# Altium footprint library Harting.PcbLib: 11 footprints
Each footprint in its own frame and in the unit in brackets; x right, y up, seen from the top. Pads: shape width x height; smd on the part's side, far side on the other; paste and mask are expansions set on the pad; w line width, h text height; cw(c..) or ccw(c..) is an arc to the next point about the centre after c.
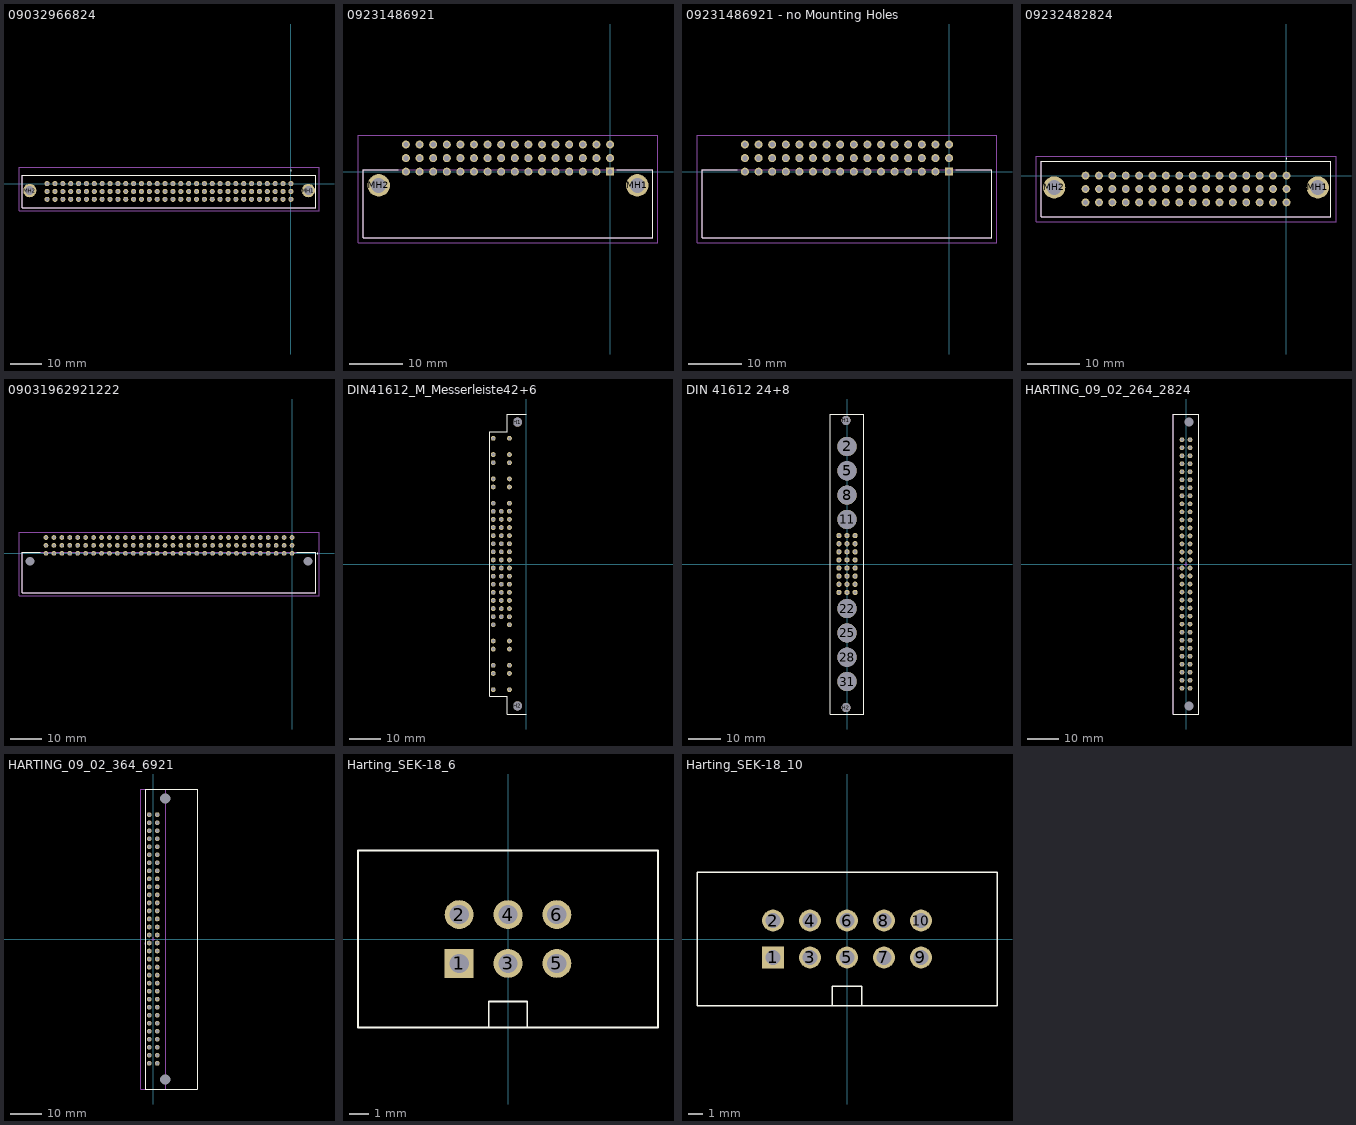
[diagram p0: the footprints below, top view; thin cyan lines are the x and y axes]

## 09032966824 [mm]
pads (98):
  round 1.65 hole 1.1: A1(0,0) A2(-2.54,0) A3(-5.08,0) A4(-7.62,0) A5(-10.16,0) A6(-12.7,0) A7(-15.24,0) A8(-17.78,0) A9(-20.32,0) A10(-22.86,0) A11(-25.4,0) A12(-27.94,0) A13(-30.48,0) A14(-33.02,0) A15(-35.56,0) A16(-38.1,0) A17(-40.64,0) A18(-43.18,0) A19(-45.72,0) A20(-48.26,0) A21(-50.8,0) A22(-53.34,0) A23(-55.88,0) A24(-58.42,0) A25(-60.96,0) A26(-63.5,0) A27(-66.04,0) A28(-68.58,0) A29(-71.12,0) A30(-73.66,0) A31(-76.2,0) A32(-78.74,0) B1(0,-2.54) B2(-2.54,-2.54) B3(-5.08,-2.54) B4(-7.62,-2.54) B5(-10.16,-2.54) B6(-12.7,-2.54) B7(-15.24,-2.54) B8(-17.78,-2.54) B9(-20.32,-2.54) B10(-22.86,-2.54) B11(-25.4,-2.54) B12(-27.94,-2.54) B13(-30.48,-2.54) B14(-33.02,-2.54) B15(-35.56,-2.54) B16(-38.1,-2.54) B17(-40.64,-2.54) B18(-43.18,-2.54) B19(-45.72,-2.54) B20(-48.26,-2.54) B21(-50.8,-2.54) B22(-53.34,-2.54) B23(-55.88,-2.54) B24(-58.42,-2.54) B25(-60.96,-2.54) B26(-63.5,-2.54) B27(-66.04,-2.54) B28(-68.58,-2.54) B29(-71.12,-2.54) B30(-73.66,-2.54) B31(-76.2,-2.54) B32(-78.74,-2.54) C1(0,-5.08) C2(-2.54,-5.08) C3(-5.08,-5.08) C4(-7.62,-5.08) C5(-10.16,-5.08) C6(-12.7,-5.08) C7(-15.24,-5.08) C8(-17.78,-5.08) C9(-20.32,-5.08) C10(-22.86,-5.08) C11(-25.4,-5.08) C12(-27.94,-5.08) C13(-30.48,-5.08) C14(-33.02,-5.08) C15(-35.56,-5.08) C16(-38.1,-5.08) C17(-40.64,-5.08) C18(-43.18,-5.08) C19(-45.72,-5.08) C20(-48.26,-5.08) C21(-50.8,-5.08) C22(-53.34,-5.08) C23(-55.88,-5.08) C24(-58.42,-5.08) C25(-60.96,-5.08) C26(-63.5,-5.08) C27(-66.04,-5.08) C28(-68.58,-5.08) C29(-71.12,-5.08) C30(-73.66,-5.08) C31(-76.2,-5.08) C32(-78.74,-5.08)
  round 4.35 hole 2.9: MH1(5.63,-2.24) MH2(-84.37,-2.24)
TopOverlay:
  lines w0.1: -86.82,-7.79 -86.82,2.71 8.08,2.71 8.08,-7.79 -86.82,-7.79
  lines w0.2: 0,4.2 ccw(c0,4.25) 0,4.3 ; 0,4.2 cw(c0,4.25) 0,4.3 ; 0,4.2 ccw(c0,4.25) 0,4.3
M 15 Body:
  lines w0.2: -86.82,-7.79 -86.82,2.71 8.08,2.71 8.08,-7.79 -86.82,-7.79
Mechanical 20:
  lines w0.1: -87.82,-8.79 -87.82,5.3 9.08,5.3 9.08,-8.79 -87.82,-8.79
3D body "09032966824.stp": height 11.61, standoff -2.89, extent -86.8,-7.8 8.1,2.7

## 09231486921 [mm]
pads (50):
  rect 1.5x1.5 hole 1: A1(0,0)
  round 1.5 hole 1: A2(-2.54,0) A3(-5.08,0) A4(-7.62,0) A5(-10.16,0) A6(-12.7,0) A7(-15.24,0) A8(-17.78,0) A9(-20.32,0) A10(-22.86,0) A11(-25.4,0) A12(-27.94,0) A13(-30.48,0) A14(-33.02,0) A15(-35.56,0) A16(-38.1,0) B1(0,2.54) B2(-2.54,2.54) B3(-5.08,2.54) B4(-7.62,2.54) B5(-10.16,2.54) B6(-12.7,2.54) B7(-15.24,2.54) B8(-17.78,2.54) B9(-20.32,2.54) B10(-22.86,2.54) B11(-25.4,2.54) B12(-27.94,2.54) B13(-30.48,2.54) B14(-33.02,2.54) B15(-35.56,2.54) B16(-38.1,2.54) C1(0,5.08) C2(-2.54,5.08) C3(-5.08,5.08) C4(-7.62,5.08) C5(-10.16,5.08) C6(-12.7,5.08) C7(-15.24,5.08) C8(-17.78,5.08) C9(-20.32,5.08) C10(-22.86,5.08) C11(-25.4,5.08) C12(-27.94,5.08) C13(-30.48,5.08) C14(-33.02,5.08) C15(-35.56,5.08) C16(-38.1,5.08)
  round 4.2 hole 2.8: MH1(5.08,-2.54) MH2(-43.18,-2.54)
TopOverlay:
  lines w0.1: -46.05,-12.28 -46.05,0.36 ; -46.05,-12.28 -46.05,0.36 ; -46.05,-12.28 7.95,-12.28 ; -46.05,-12.28 7.95,-12.28 ; -46.05,0.36 -39.5,0.36 -46.05,0.36 ; 7.95,-12.28 7.95,0.36 ; 7.95,-12.28 7.95,0.36 ; 7.95,0.36 1.25,0.36 7.95,0.36
M 15 Body:
  lines w0.2: -46.05,-12.28 -46.05,0.36 7.95,0.36 7.95,-12.28 -46.05,-12.28
Mechanical 20:
  lines w0.1: -47.05,-13.28 -47.05,6.83 8.95,6.83 8.95,-13.28 -47.05,-13.28
3D body "09231486921.stp": height 9.35, standoff -3, extent -46.05,-12.6 7.95,5.418

## 09231486921 - no Mounting Holes [mm]
pads (48):
  rect 1.5x1.5 hole 1: A1(0,0)
  round 1.5 hole 1: A2(-2.54,0) A3(-5.08,0) A4(-7.62,0) A5(-10.16,0) A6(-12.7,0) A7(-15.24,0) A8(-17.78,0) A9(-20.32,0) A10(-22.86,0) A11(-25.4,0) A12(-27.94,0) A13(-30.48,0) A14(-33.02,0) A15(-35.56,0) A16(-38.1,0) B1(0,2.54) B2(-2.54,2.54) B3(-5.08,2.54) B4(-7.62,2.54) B5(-10.16,2.54) B6(-12.7,2.54) B7(-15.24,2.54) B8(-17.78,2.54) B9(-20.32,2.54) B10(-22.86,2.54) B11(-25.4,2.54) B12(-27.94,2.54) B13(-30.48,2.54) B14(-33.02,2.54) B15(-35.56,2.54) B16(-38.1,2.54) C1(0,5.08) C2(-2.54,5.08) C3(-5.08,5.08) C4(-7.62,5.08) C5(-10.16,5.08) C6(-12.7,5.08) C7(-15.24,5.08) C8(-17.78,5.08) C9(-20.32,5.08) C10(-22.86,5.08) C11(-25.4,5.08) C12(-27.94,5.08) C13(-30.48,5.08) C14(-33.02,5.08) C15(-35.56,5.08) C16(-38.1,5.08)
TopOverlay:
  lines w0.1: -46.05,-12.28 7.95,-12.28 ; -46.05,-12.28 7.95,-12.28 ; -46.05,-12.28 -46.05,0.36 ; -46.05,-12.28 -46.05,0.36 ; -46.05,0.36 -39.5,0.36 -46.05,0.36 ; 7.95,-12.28 7.95,0.36 ; 7.95,-12.28 7.95,0.36 ; 7.95,0.36 1.25,0.36 7.95,0.36
M 15 Body:
  lines w0.2: -46.05,-12.28 7.95,-12.28 7.95,0.36 -46.05,0.36 -46.05,-12.28
Mechanical 20:
  lines w0.1: -47.05,-13.28 8.95,-13.28 8.95,6.83 -47.05,6.83 -47.05,-13.28
3D body "09231486921.stp": height 9.35, standoff -3, extent -46.05,-12.6 7.95,5.418

## 09232482824 [mm]
pads (50):
  round 1.5 hole 1: A1(0,0) A2(-2.54,0) A3(-5.08,0) A4(-7.62,0) A5(-10.16,0) A6(-12.7,0) A7(-15.24,0) A8(-17.78,0) A9(-20.32,0) A10(-22.86,0) A11(-25.4,0) A12(-27.94,0) A13(-30.48,0) A14(-33.02,0) A15(-35.56,0) A16(-38.1,0) B1(0,-2.54) B2(-2.54,-2.54) B3(-5.08,-2.54) B4(-7.62,-2.54) B5(-10.16,-2.54) B6(-12.7,-2.54) B7(-15.24,-2.54) B8(-17.78,-2.54) B9(-20.32,-2.54) B10(-22.86,-2.54) B11(-25.4,-2.54) B12(-27.94,-2.54) B13(-30.48,-2.54) B14(-33.02,-2.54) B15(-35.56,-2.54) B16(-38.1,-2.54) C1(0,-5.08) C2(-2.54,-5.08) C3(-5.08,-5.08) C4(-7.62,-5.08) C5(-10.16,-5.08) C6(-12.7,-5.08) C7(-15.24,-5.08) C8(-17.78,-5.08) C9(-20.32,-5.08) C10(-22.86,-5.08) C11(-25.4,-5.08) C12(-27.94,-5.08) C13(-30.48,-5.08) C14(-33.02,-5.08) C15(-35.56,-5.08) C16(-38.1,-5.08)
  round 4.2 hole 2.8: MH1(5.95,-2.24) MH2(-44.05,-2.24)
TopOverlay:
  lines w0.2: 0,3.2 cw(c0,3.25) 0,3.3 ; 0,3.2 ccw(c0,3.25) 0,3.3 ; 0,3.2 cw(c0,3.25) 0,3.3 ; -46.5,-7.79 -46.5,2.71 8.4,2.71 8.4,-7.79 -46.5,-7.79
M 15 Body:
  lines w0.1: -46.5,-7.79 8.4,-7.79 8.4,2.71 -46.5,2.71 -46.5,-7.79
Mechanical 20:
  lines w0.1: -47.5,-8.79 9.4,-8.79 9.4,3.71 -47.5,3.71 -47.5,-8.79
3D body "09232482824.stp": height 11.6, standoff -2.9, extent -46.5,-7.8 8.4,2.7

## 09031962921222 [mm]
pads (98):
  round 1.5 hole 1: A1(0,0) A2(-2.54,0) A3(-5.08,0) A4(-7.62,0) A5(-10.16,0) A6(-12.7,0) A7(-15.24,0) A8(-17.78,0) A9(-20.32,0) A10(-22.86,0) A11(-25.4,0) A12(-27.94,0) A13(-30.48,0) A14(-33.02,0) A15(-35.56,0) A16(-38.1,0) A17(-40.64,0) A18(-43.18,0) A19(-45.72,0) A20(-48.26,0) A21(-50.8,0) A22(-53.34,0) A23(-55.88,0) A24(-58.42,0) A25(-60.96,0) A26(-63.5,0) A27(-66.04,0) A28(-68.58,0) A29(-71.12,0) A30(-73.66,0) A31(-76.2,0) A32(-78.74,0) B1(0,2.54) B2(-2.54,2.54) B3(-5.08,2.54) B4(-7.62,2.54) B5(-10.16,2.54) B6(-12.7,2.54) B7(-15.24,2.54) B8(-17.78,2.54) B9(-20.32,2.54) B10(-22.86,2.54) B11(-25.4,2.54) B12(-27.94,2.54) B13(-30.48,2.54) B14(-33.02,2.54) B15(-35.56,2.54) B16(-38.1,2.54) B17(-40.64,2.54) B18(-43.18,2.54) B19(-45.72,2.54) B20(-48.26,2.54) B21(-50.8,2.54) B22(-53.34,2.54) B23(-55.88,2.54) B24(-58.42,2.54) B25(-60.96,2.54) B26(-63.5,2.54) B27(-66.04,2.54) B28(-68.58,2.54) B29(-71.12,2.54) B30(-73.66,2.54) B31(-76.2,2.54) B32(-78.74,2.54) C1(0,5.08) C2(-2.54,5.08) C3(-5.08,5.08) C4(-7.62,5.08) C5(-10.16,5.08) C6(-12.7,5.08) C7(-15.24,5.08) C8(-17.78,5.08) C9(-20.32,5.08) C10(-22.86,5.08) C11(-25.4,5.08) C12(-27.94,5.08) C13(-30.48,5.08) C14(-33.02,5.08) C15(-35.56,5.08) C16(-38.1,5.08) C17(-40.64,5.08) C18(-43.18,5.08) C19(-45.72,5.08) C20(-48.26,5.08) C21(-50.8,5.08) C22(-53.34,5.08) C23(-55.88,5.08) C24(-58.42,5.08) C25(-60.96,5.08) C26(-63.5,5.08) C27(-66.04,5.08) C28(-68.58,5.08) C29(-71.12,5.08) C30(-73.66,5.08) C31(-76.2,5.08) C32(-78.74,5.08)
  round 1.4 hole 2.8 unplated: MH1(-83.82,-2.54) MH2(5.08,-2.54)
TopOverlay:
  lines w0.1: 8.1,0 ccw(c8.15,0) 8.2,0 ccw(c8.15,0) 8.1,0
  lines w0.2: -80.5,0.31 -86.37,0.31 -86.37,-12.64 7.63,-12.64 7.63,0.31 1.5,0.31
M 15 Body:
  lines w0.1: -86.37,-12.64 -86.37,0.31 7.63,0.31 7.63,-12.64 -86.37,-12.64
Mechanical 20:
  lines w0.1: -87.37,-13.64 -87.37,6.83 8.63,6.83 8.63,-13.64 -87.37,-13.64
3D body "09031962921222.stp": height 9.3, standoff -3.05, extent -86.35,-12.65 7.65,5.368

## DIN41612_M_Messerleiste42+6 [mm] "Steckverbinder DIN 41 612 Bauform M Messerleiste 42+6 mit Hochstromkontakten"
height 11
pads (68):
  round 1.5 hole 1 paste-0.025 mask+0.06: A10(-5.3,16.51) A11(-5.3,13.97) A12(-5.3,11.43) A13(-5.3,8.89) A14(-5.3,6.35) A15(-5.3,3.81) A16(-5.3,1.27) A17(-5.3,-1.27) A18(-5.3,-3.81) A19(-5.3,-6.35) A20(-5.3,-8.89) A21(-5.3,-11.43) A22(-5.3,-13.97) A23(-5.3,-16.51) B10(-7.84,16.51) B11(-7.84,13.97) B12(-7.84,11.43) B13(-7.84,8.89) B14(-7.84,6.35) B15(-7.84,3.81) B16(-7.84,1.27) B17(-7.84,-1.27) B18(-7.84,-3.81) B19(-7.84,-6.35) B20(-7.84,-8.89) B21(-7.84,-11.43) B22(-7.84,-13.97) B23(-7.84,-16.51) C10(-10.38,16.51) C11(-10.38,13.97) C12(-10.38,11.43) C13(-10.38,8.89) C14(-10.38,6.35) C15(-10.38,3.81) C16(-10.38,1.27) C17(-10.38,-1.27) C18(-10.38,-3.81) C19(-10.38,-6.35) C20(-10.38,-8.89) C21(-10.38,-11.43) C22(-10.38,-13.97) C23(-10.38,-16.51) P2(-10.38,34.29) P2(-10.38,39.37) P2(-5.3,34.29) P2(-5.3,39.37) P5(-10.38,26.67) P5(-10.38,31.75) P5(-5.3,26.67) P5(-5.3,31.75) P8(-10.38,19.05) P8(-10.38,24.13) P8(-5.3,19.05) P8(-5.3,24.13) P25(-10.38,-24.13) P25(-10.38,-19.05) P25(-5.3,-24.13) P25(-5.3,-19.05) P28(-10.38,-31.75) P28(-10.38,-26.67) P28(-5.3,-31.75) P28(-5.3,-26.67) P31(-10.38,-39.37) P31(-10.38,-34.29) P31(-5.3,-39.37) P31(-5.3,-34.29)
  round 2.8 hole 2.8 unplated paste-0.025 mask+0.06: H1(-2.76,44.45) H2(-2.76,-44.45)
TopOverlay:
  lines w0.15: 0,-47 -6,-47 -6,-41.5 -11.5,-41.5 -11.5,41.5 -6,41.5 -6,47 0,47
3D body "Harting_09031104020300.STP": height 9.5, standoff -2.85, extent -10.67,-46.975 7.35,47.025
3D body "Harting_09030006134.STP": height 6.99, standoff -2.81, extent -10.785,-39.82 7.615,-33.82
3D body "Harting_09030006134.STP": height 6.99, standoff -2.81, extent -10.785,-32.2 7.615,-26.2
3D body "Harting_09030006134.STP": height 6.99, standoff -2.81, extent -10.785,-24.58 7.615,-18.58
3D body "Harting_09030006134.STP": height 6.99, standoff -2.81, extent -10.785,33.84 7.615,39.84
3D body "Harting_09030006134.STP": height 6.99, standoff -2.81, extent -10.785,26.22 7.615,32.22
3D body "Harting_09030006134.STP": height 6.99, standoff -2.81, extent -10.785,18.6 7.615,24.6

## DIN 41612 24+8 [mm] "Female Connector Type M 24+8"
height 12
pads (34):
  round 6 hole 6 unplated: 2(0,36.83) 5(0,29.21) 8(0,21.59) 11(0,13.97) 22(0,-13.97) 25(0,-21.59) 28(0,-29.21) 31(0,-36.83)
  round 1.64 hole 1 mask+0.07: A13(-2.54,8.89) A14(-2.54,6.35) A15(-2.54,3.81) A16(-2.54,1.27) A17(-2.54,-1.27) A18(-2.54,-3.81) A19(-2.54,-6.35) A20(-2.54,-8.89) B13(0,8.89) B14(0,6.35) B15(0,3.81) B16(0,1.27) B17(0,-1.27) B18(0,-3.81) B19(0,-6.35) B20(0,-8.89) C13(2.54,8.89) C14(2.54,6.35) C15(2.54,3.81) C16(2.54,1.27) C17(2.54,-1.27) C18(2.54,-3.81) C19(2.54,-6.35) C20(2.54,-8.89)
  round 2.8 hole 2.8 unplated: H1(-0.3,45) H2(-0.3,-45)
TopOverlay:
  lines w0.15: -5.3,-47 -5.3,47 5.3,47 5.3,-47 -5.3,-47
3D body "c-5148384-5-o-3d.stp": height 12.5, standoff -6.05, extent -5.3,-46.927 5.3,46.928

## HARTING_09_02_264_2824 [mm]
pads (66):
  round 0 hole 2.9 unplated: 1(0.97,45) 2(0.97,-45)
  round 1.5 hole 1: a1(-1.27,39.37) a2(-1.27,36.83) a3(-1.27,34.29) a4(-1.27,31.75) a5(-1.27,29.21) a6(-1.27,26.67) a7(-1.27,24.13) a8(-1.27,21.59) a9(-1.27,19.05) a10(-1.27,16.51) a11(-1.27,13.97) a12(-1.27,11.43) a13(-1.27,8.89) a14(-1.27,6.35) a15(-1.27,3.81) a16(-1.27,1.27) a17(-1.27,-1.27) a18(-1.27,-3.81) a19(-1.27,-6.35) a20(-1.27,-8.89) a21(-1.27,-11.43) a22(-1.27,-13.97) a23(-1.27,-16.51) a24(-1.27,-19.05) a25(-1.27,-21.59) a26(-1.27,-24.13) a27(-1.27,-26.67) a28(-1.27,-29.21) a29(-1.27,-31.75) a30(-1.27,-34.29) a31(-1.27,-36.83) a32(-1.27,-39.37) b1(1.27,39.37) b2(1.27,36.83) b3(1.27,34.29) b4(1.27,31.75) b5(1.27,29.21) b6(1.27,26.67) b7(1.27,24.13) b8(1.27,21.59) b9(1.27,19.05) b10(1.27,16.51) b11(1.27,13.97) b12(1.27,11.43) b13(1.27,8.89) b14(1.27,6.35) b15(1.27,3.81) b16(1.27,1.27) b17(1.27,-1.27) b18(1.27,-3.81) b19(1.27,-6.35) b20(1.27,-8.89) b21(1.27,-11.43) b22(1.27,-13.97) b23(1.27,-16.51) b24(1.27,-19.05) b25(1.27,-21.59) b26(1.27,-24.13) b27(1.27,-26.67) b28(1.27,-29.21) b29(1.27,-31.75) b30(1.27,-34.29) b31(1.27,-36.83) b32(1.27,-39.37)
TopOverlay:
  lines w0.1: -4,-47.5 -4,47.5 4,47.5 4,-47.5 -4,-47.5
Mechanical 9:
  text ".Designator" at 0.225,-2.775 h0.7
Mechanical 10:
  text ".Comment" at 0.2,-2.275 h0.7
Mechanical 13:
  circle w0.1: c-2.541,-1.4 r0.141
  lines w0.1: -4,-47.5 4,-47.5 4,47.5 -4,47.5 -4,-47.5
M 15 Body:
  lines w0.1: -0.475,0 0.475,0 ; 0,-0.475 0,0.475 ; -4,-47.5 -4,47.5 4,47.5 4,-47.5 -4,-47.5
3D body "0902_DIN_har-bus_B_straight_female_64_pole.stp": height 11.6, standoff -4.5, extent -4,-47.475 4,47.425

## HARTING_09_02_364_6921 [mm]
pads (66):
  round 0 hole 3.3 unplated: 1(3.8,44.5) 2(3.8,-44.5)
  round 1.5 hole 1: a1(1.27,39.37) a2(1.27,36.83) a3(1.27,34.29) a4(1.27,31.75) a5(1.27,29.21) a6(1.27,26.67) a7(1.27,24.13) a8(1.27,21.59) a9(1.27,19.05) a10(1.27,16.51) a11(1.27,13.97) a12(1.27,11.43) a13(1.27,8.89) a14(1.27,6.35) a15(1.27,3.81) a16(1.27,1.27) a17(1.27,-1.27) a18(1.27,-3.81) a19(1.27,-6.35) a20(1.27,-8.89) a21(1.27,-11.43) a22(1.27,-13.97) a23(1.27,-16.51) a24(1.27,-19.05) a25(1.27,-21.59) a26(1.27,-24.13) a27(1.27,-26.67) a28(1.27,-29.21) a29(1.27,-31.75) a30(1.27,-34.29) a31(1.27,-36.83) a32(1.27,-39.37) b1(-1.27,39.37) b2(-1.27,36.83) b3(-1.27,34.29) b4(-1.27,31.75) b5(-1.27,29.21) b6(-1.27,26.67) b7(-1.27,24.13) b8(-1.27,21.59) b9(-1.27,19.05) b10(-1.27,16.51) b11(-1.27,13.97) b12(-1.27,11.43) b13(-1.27,8.89) b14(-1.27,6.35) b15(-1.27,3.81) b16(-1.27,1.27) b17(-1.27,-1.27) b18(-1.27,-3.81) b19(-1.27,-6.35) b20(-1.27,-8.89) b21(-1.27,-11.43) b22(-1.27,-13.97) b23(-1.27,-16.51) b24(-1.27,-19.05) b25(-1.27,-21.59) b26(-1.27,-24.13) b27(-1.27,-26.67) b28(-1.27,-29.21) b29(-1.27,-31.75) b30(-1.27,-34.29) b31(-1.27,-36.83) b32(-1.27,-39.37)
TopOverlay:
  lines w0.1: -2.5,-47.5 14,-47.5 14,47.5 -2.5,47.5 -2.5,-47.5
Mechanical 9:
  text ".Designator" at 0.225,-2.775 h0.7
Mechanical 10:
  text ".Comment" at 0.2,-2.275 h0.7
Mechanical 13:
  circle w0.1: c-2.541,-1.4 r0.141
  lines w0.1: -4,-47.5 -4,47.5 4,47.5 4,-47.5 -4,-47.5
M 15 Body:
  lines w0.1: -0.475,0 0.475,0 ; 0,-0.475 0,0.475 ; -4,-47.5 4,-47.5 4,47.5 -4,47.5 -4,-47.5
3D body "09021202020300_100083083MOD000B.stp": height 7.34, standoff -2.58, extent -1.58,-47 13.9,47

## Harting_SEK-18_6 [mm]
pads (6):
  rect 1.5x1.5 hole 1: 1(-2.54,-1.27)
  round 1.5 hole 1: 2(-2.54,1.27) 3(0,-1.27) 4(0,1.27) 5(2.54,-1.27) 6(2.54,1.27)
TopOverlay:
  lines w0.1: -1,-4.6 -1,-3.25 1,-3.25 1,-4.6 ; -7.8,-4.6 -7.8,4.6 7.8,4.6 7.8,-4.6 -7.8,-4.6
3D body "091X506X324_100081328MOD000B.STP": height 9.46, standoff -2.89, extent -7.7,-4.45 7.7,4.75

## Harting_SEK-18_10 [mm]
pads (10):
  rect 1.5x1.5 hole 1: 1(-5.08,-1.27)
  round 1.5 hole 1: 2(-5.08,1.27) 3(-2.54,-1.27) 4(-2.54,1.27) 5(0,-1.27) 6(0,1.27) 7(2.54,-1.27) 8(2.54,1.27) 9(5.08,-1.27) 10(5.08,1.27)
TopOverlay:
  lines w0.1: -1,-4.6 -1,-3.25 1,-3.25 1,-4.6 ; -10.3,-4.6 -10.3,4.6 10.3,4.6 10.3,-4.6 -10.3,-4.6
3D body "0918_low_profile_male_header_straight_10_pin_2_9_PCB.stp": height 9.46, standoff -3.19, extent -10.16,-4.45 10.16,4.75